# Altium footprint library Amplifiers.PcbLib: 1 footprints
Each footprint in its own frame and in the unit in brackets; x right, y up, seen from the top. Pads: shape width x height; smd on the part's side, far side on the other; paste and mask are expansions set on the pad; w line width, h text height; cw(c..) or ccw(c..) is an arc to the next point about the centre after c.
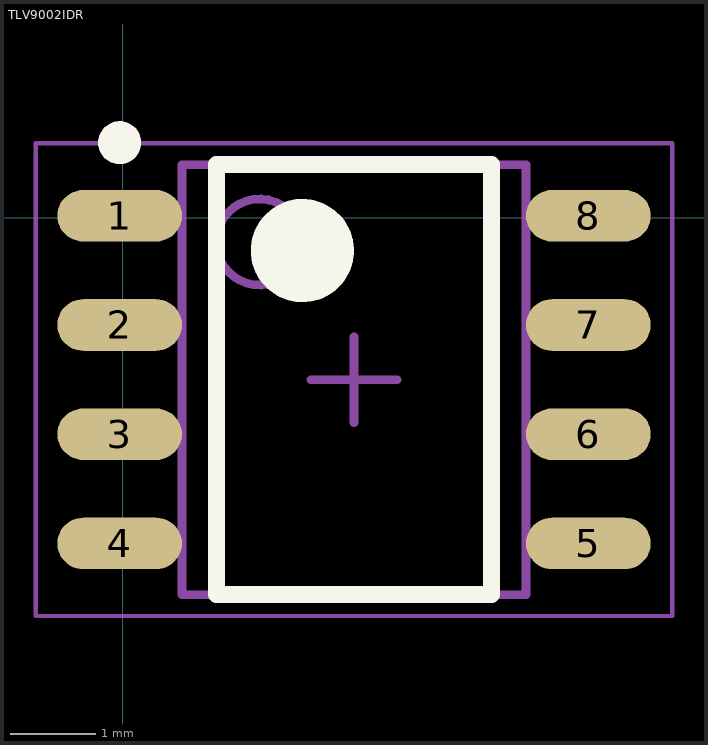
[diagram p0: the footprint, top view; thin cyan lines are the x and y axes]

## TLV9002IDR [mm] "General Purpose Amplifier 2 Circuit Rail-to-Rail 8-SOIC"
pads (8):
  oval 1.45x0.6 smd: 1(-0.035,0.024) 2(-0.035,-1.246) 3(-0.035,-2.516) 4(-0.035,-3.786) 5(5.415,-3.786) 6(5.415,-2.516) 7(5.415,-1.246) 8(5.415,0.024)
Top Overlay:
  circle w0.25: c-0.035,0.874 r0.125
  circle w0.6: c2.09,-0.381 r0.3
  lines w0.2: 1.09,-4.381 1.09,0.619 4.29,0.619 4.29,-4.381 1.09,-4.381
Mechanical 13:
  circle w0.1: c1.59,-0.281 r0.5
  lines w0.1: 0.69,-4.381 0.69,0.619 4.69,0.619 4.69,-4.381 0.69,-4.381
Mechanical 15:
  lines w0.05: -1.01,-4.631 -1.01,0.869 6.39,0.869 6.39,-4.631 -1.01,-4.631
  lines w0.1: 2.19,-1.881 3.19,-1.881 ; 2.69,-2.381 2.69,-1.381
3D body: height 1.75, standoff 0.1, extent 0.69,-4.381 4.69,0.619